# Altium schematic symbol library Microcontroller tinyAVR.SchLib: 370 symbols (part 11 of 11)
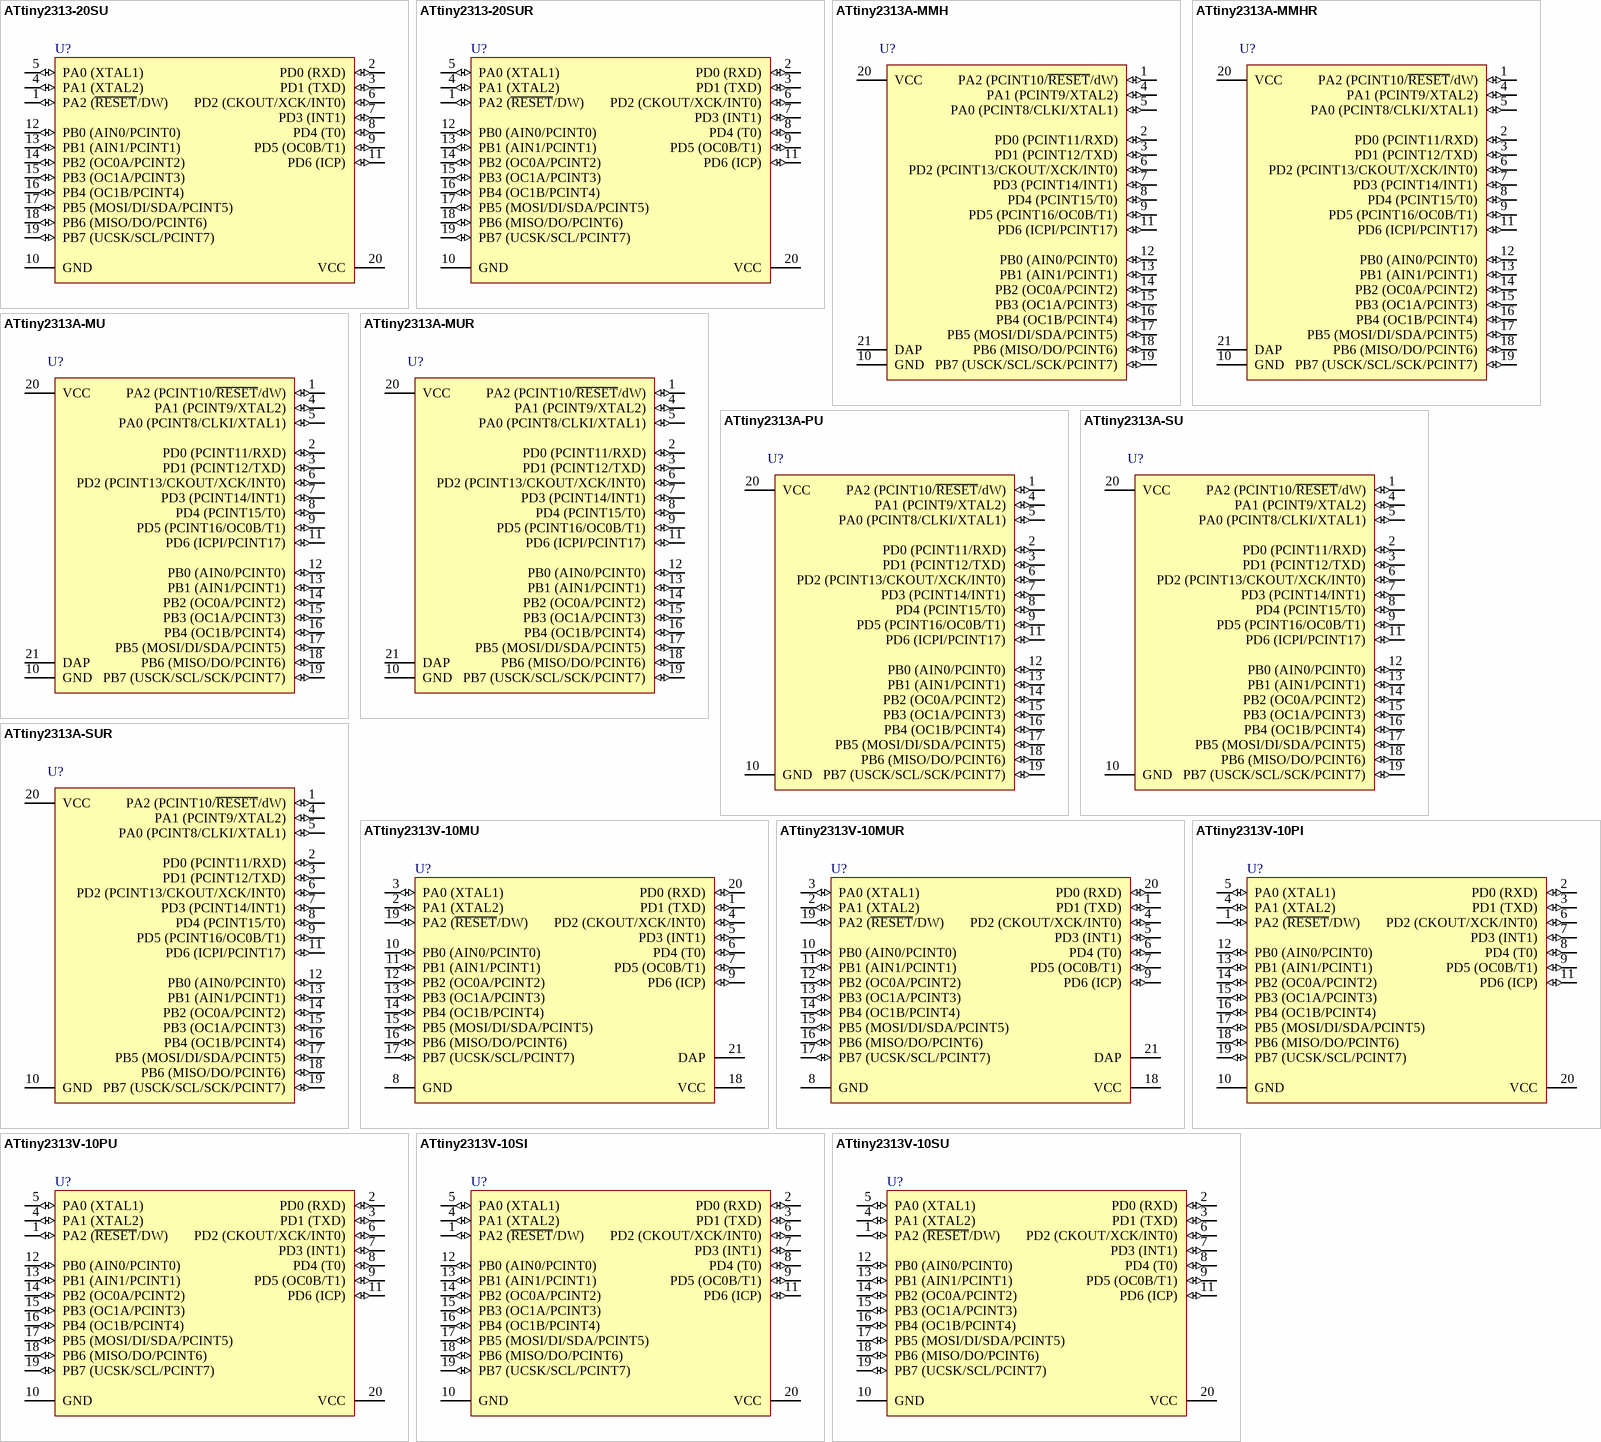
[diagram p36: symbols ATtiny2313-20SU to ATtiny2313V-10SU]

## ATtiny2313-20SUR
designator U?
Low Power tinyAVR® 8-Bit Microcontroller, 2.7-5.5V, 20MHz, 2K Flash Memory, Industrial Grade (-40°C to 85°C), 20-Lead SOIC, Pb-Free, Reel; DatasheetVersion: revL, Aug-2010; PackageVersion: revB, Nov-2006; PackageReference: 20S; PackageDescription: 20-lead, 0.300" Wide Body, Plastic Gull Wing Small Outline Package (SOIC); Code_JEDEC: MS-013-AC; Code_IPC: SOIC127P1030-20; ComponentLink1Description: Manufacturer URL; ComponentLink1URL: http://www.atmel.com/; ComponentLink2Description: ATtiny2313 Datasheet; ComponentLink2URL: http://www.atmel.com/dyn/resources/prod_documents/doc2543.pdf; ComponentLink3Description: ATtiny2313 Summary; ComponentLink3URL: http://www.atmel.com/dyn/resources/prod_documents/doc2543S.pdf
footprint 20S_N (SOIC, 20-Leads, Body 12.8x7.5mm, Pitch 1.27mm, IPC Medium Density)
footprint 20S_L (SOIC, 20-Leads, Body 12.8x7.5mm, Pitch 1.27mm, IPC High Density)
footprint 20S_M (SOIC, 20-Leads, Body 12.8x7.5mm, Pitch 1.27mm, IPC Low Density)
pins: 1 PA2 (~{RESET}/DW) (io), 2 PD0 (RXD) (io), 3 PD1 (TXD) (io), 4 PA1 (XTAL2) (io), 5 PA0 (XTAL1) (io), 6 PD2 (CKOUT/XCK/INT0) (io), 7 PD3 (INT1) (io), 8 PD4 (T0) (io), 9 PD5 (OC0B/T1) (io), 10 GND (power), 11 PD6 (ICP) (io), 12 PB0 (AIN0/PCINT0) (io), 13 PB1 (AIN1/PCINT1) (io), 14 PB2 (OC0A/PCINT2) (io), 15 PB3 (OC1A/PCINT3) (io), 16 PB4 (OC1B/PCINT4) (io), 17 PB5 (MOSI/DI/SDA/PCINT5) (io), 18 PB6 (MISO/DO/PCINT6) (io), 19 PB7 (UCSK/SCL/PCINT7) (io), 20 VCC (power)

## ATtiny2313A-MMH
designator U?
8-bit AVR Microcontroller, 1.8-5.5V, 20MHz, 2KB Flash, 128 Bytes EEPROM, 128 Bytes SRAM, 20-pin VQFN, Industrial Grade (-40°C to 85°C), Pb-Free; DatasheetVersion: revB, Oct-2011; PackageVersion: revB, Oct-2008; PackageReference: 20M2; PackageDescription: 20-pad, 3x3x0.85mm Body, Pitch 0.45mm, 1.55x1.55mm Exposed Pad, Plastic Very Thin QFN Package (VQFN); ComponentLink1Description: Manufacturer URL; ComponentLink1URL: http://www.atmel.com/; ComponentLink2Description: ATtiny2313A/4313 Datasheet; ComponentLink2URL: http://www.atmel.com/dyn/resources/prod_documents/doc8246.pdf; ComponentLink3Description: ATtiny2313A/4313 Summary; ComponentLink3URL: http://www.atmel.com/dyn/resources/prod_documents/8246S.pdf
footprint 20M2_N (QFN, 20-Leads, Body 3x3mm, Pitch 0.45mm, Thermal Pad 1.7x1.7mm, IPC Medium Density)
footprint 20M2_L (QFN, 20-Leads, Body 3x3mm, Pitch 0.45mm, Thermal Pad 1.7x1.7mm, IPC High Density)
footprint 20M2_M (QFN, 20-Leads, Body 3x3mm, Pitch 0.45mm, Thermal Pad 1.7x1.7mm, IPC Low Density)
pins: 1 PA2 (PCINT10/~{RESET}/dW) (io), 2 PD0 (PCINT11/RXD) (io), 3 PD1 (PCINT12/TXD) (io), 4 PA1 (PCINT9/XTAL2) (io), 5 PA0 (PCINT8/CLKI/XTAL1) (io), 6 PD2 (PCINT13/CKOUT/XCK/INT0) (io), 7 PD3 (PCINT14/INT1) (io), 8 PD4 (PCINT15/T0) (io), 9 PD5 (PCINT16/OC0B/T1) (io), 10 GND (power), 11 PD6 (ICPI/PCINT17) (io), 12 PB0 (AIN0/PCINT0) (io), 13 PB1 (AIN1/PCINT1) (io), 14 PB2 (OC0A/PCINT2) (io), 15 PB3 (OC1A/PCINT3) (io), 16 PB4 (OC1B/PCINT4) (io), 17 PB5 (MOSI/DI/SDA/PCINT5) (io), 18 PB6 (MISO/DO/PCINT6) (io), 19 PB7 (USCK/SCL/SCK/PCINT7) (io), 20 VCC (power), 21 DAP

## ATtiny2313A-MMHR
designator U?
8-bit AVR Microcontroller, 1.8-5.5V, 20MHz, 2KB Flash, 128 Bytes EEPROM, 128 Bytes SRAM, 20-pin VQFN, Industrial Grade (-40°C to 85°C), Pb-Free, Reel; DatasheetVersion: revB, Oct-2011; PackageVersion: revB, Oct-2008; PackageReference: 20M2; PackageDescription: 20-pad, 3x3x0.85mm Body, Pitch 0.45mm, 1.55x1.55mm Exposed Pad, Plastic Very Thin QFN Package (VQFN); ComponentLink1Description: Manufacturer URL; ComponentLink1URL: http://www.atmel.com/; ComponentLink2Description: ATtiny2313A/4313 Datasheet; ComponentLink2URL: http://www.atmel.com/dyn/resources/prod_documents/doc8246.pdf; ComponentLink3Description: ATtiny2313A/4313 Summary; ComponentLink3URL: http://www.atmel.com/dyn/resources/prod_documents/8246S.pdf
footprint 20M2_N (QFN, 20-Leads, Body 3x3mm, Pitch 0.45mm, Thermal Pad 1.7x1.7mm, IPC Medium Density)
footprint 20M2_L (QFN, 20-Leads, Body 3x3mm, Pitch 0.45mm, Thermal Pad 1.7x1.7mm, IPC High Density)
footprint 20M2_M (QFN, 20-Leads, Body 3x3mm, Pitch 0.45mm, Thermal Pad 1.7x1.7mm, IPC Low Density)
pins: 1 PA2 (PCINT10/~{RESET}/dW) (io), 2 PD0 (PCINT11/RXD) (io), 3 PD1 (PCINT12/TXD) (io), 4 PA1 (PCINT9/XTAL2) (io), 5 PA0 (PCINT8/CLKI/XTAL1) (io), 6 PD2 (PCINT13/CKOUT/XCK/INT0) (io), 7 PD3 (PCINT14/INT1) (io), 8 PD4 (PCINT15/T0) (io), 9 PD5 (PCINT16/OC0B/T1) (io), 10 GND (power), 11 PD6 (ICPI/PCINT17) (io), 12 PB0 (AIN0/PCINT0) (io), 13 PB1 (AIN1/PCINT1) (io), 14 PB2 (OC0A/PCINT2) (io), 15 PB3 (OC1A/PCINT3) (io), 16 PB4 (OC1B/PCINT4) (io), 17 PB5 (MOSI/DI/SDA/PCINT5) (io), 18 PB6 (MISO/DO/PCINT6) (io), 19 PB7 (USCK/SCL/SCK/PCINT7) (io), 20 VCC (power), 21 DAP

## ATtiny2313A-MU
designator U?
8-bit AVR Microcontroller, 1.8-5.5V, 20MHz, 2KB Flash, 128 Bytes EEPROM, 128 Bytes SRAM, 20-pin MLF, Industrial Grade (-40°C to 85°C), Pb-Free; DatasheetVersion: revB, Oct-2011; PackageVersion: revA, Oct-2004; PackageReference: 20M1; PackageDescription: 20-pad, 4 x 4 x 0.8 mm Body, Lead Pitch 0.50 mm, 2.6 mm Exposed Pad, Micro Lead Frame Package (MLF); Code_JEDEC: MO-220WGGD-5; ComponentLink1Description: Manufacturer URL; ComponentLink1URL: http://www.atmel.com/; ComponentLink2Description: ATtiny2313A/4313 Datasheet; ComponentLink2URL: http://www.atmel.com/dyn/resources/prod_documents/doc8246.pdf; ComponentLink3Description: ATtiny2313A/4313 Summary; ComponentLink3URL: http://www.atmel.com/dyn/resources/prod_documents/8246S.pdf
footprint 20M1_N (QFN, 20-Leads, Body 4x4mm, Pitch 0.5mm, Thermal Pad 2.7x2.7mm, IPC Medium Density)
footprint 20M1_L (QFN, 20-Leads, Body 4x4mm, Pitch 0.5mm, Thermal Pad 2.7x2.7mm, IPC High Density)
footprint 20M1_M (QFN, 20-Leads, Body 4x4mm, Pitch 0.5mm, Thermal Pad 2.7x2.7mm, IPC Low Density)
pins: 1 PA2 (PCINT10/~{RESET}/dW) (io), 2 PD0 (PCINT11/RXD) (io), 3 PD1 (PCINT12/TXD) (io), 4 PA1 (PCINT9/XTAL2) (io), 5 PA0 (PCINT8/CLKI/XTAL1) (io), 6 PD2 (PCINT13/CKOUT/XCK/INT0) (io), 7 PD3 (PCINT14/INT1) (io), 8 PD4 (PCINT15/T0) (io), 9 PD5 (PCINT16/OC0B/T1) (io), 10 GND (power), 11 PD6 (ICPI/PCINT17) (io), 12 PB0 (AIN0/PCINT0) (io), 13 PB1 (AIN1/PCINT1) (io), 14 PB2 (OC0A/PCINT2) (io), 15 PB3 (OC1A/PCINT3) (io), 16 PB4 (OC1B/PCINT4) (io), 17 PB5 (MOSI/DI/SDA/PCINT5) (io), 18 PB6 (MISO/DO/PCINT6) (io), 19 PB7 (USCK/SCL/SCK/PCINT7) (io), 20 VCC (power), 21 DAP

## ATtiny2313A-MUR
designator U?
8-bit AVR Microcontroller, 1.8-5.5V, 20MHz, 2KB Flash, 128 Bytes EEPROM, 128 Bytes SRAM, 20-pin MLF, Industrial Grade (-40°C to 85°C), Pb-Free, Reel; DatasheetVersion: revB, Oct-2011; PackageVersion: revA, Oct-2004; PackageReference: 20M1; PackageDescription: 20-pad, 4 x 4 x 0.8 mm Body, Lead Pitch 0.50 mm, 2.6 mm Exposed Pad, Micro Lead Frame Package (MLF); Code_JEDEC: MO-220WGGD-5; ComponentLink1Description: Manufacturer URL; ComponentLink1URL: http://www.atmel.com/; ComponentLink2Description: ATtiny2313A/4313 Datasheet; ComponentLink2URL: http://www.atmel.com/dyn/resources/prod_documents/doc8246.pdf; ComponentLink3Description: ATtiny2313A/4313 Summary; ComponentLink3URL: http://www.atmel.com/dyn/resources/prod_documents/8246S.pdf
footprint 20M1_N (QFN, 20-Leads, Body 4x4mm, Pitch 0.5mm, Thermal Pad 2.7x2.7mm, IPC Medium Density)
footprint 20M1_L (QFN, 20-Leads, Body 4x4mm, Pitch 0.5mm, Thermal Pad 2.7x2.7mm, IPC High Density)
footprint 20M1_M (QFN, 20-Leads, Body 4x4mm, Pitch 0.5mm, Thermal Pad 2.7x2.7mm, IPC Low Density)
pins: 1 PA2 (PCINT10/~{RESET}/dW) (io), 2 PD0 (PCINT11/RXD) (io), 3 PD1 (PCINT12/TXD) (io), 4 PA1 (PCINT9/XTAL2) (io), 5 PA0 (PCINT8/CLKI/XTAL1) (io), 6 PD2 (PCINT13/CKOUT/XCK/INT0) (io), 7 PD3 (PCINT14/INT1) (io), 8 PD4 (PCINT15/T0) (io), 9 PD5 (PCINT16/OC0B/T1) (io), 10 GND (power), 11 PD6 (ICPI/PCINT17) (io), 12 PB0 (AIN0/PCINT0) (io), 13 PB1 (AIN1/PCINT1) (io), 14 PB2 (OC0A/PCINT2) (io), 15 PB3 (OC1A/PCINT3) (io), 16 PB4 (OC1B/PCINT4) (io), 17 PB5 (MOSI/DI/SDA/PCINT5) (io), 18 PB6 (MISO/DO/PCINT6) (io), 19 PB7 (USCK/SCL/SCK/PCINT7) (io), 20 VCC (power), 21 DAP

## ATtiny2313A-PU
designator U?
8-bit AVR Microcontroller, 1.8-5.5V, 20MHz, 2KB Flash, 128 Bytes EEPROM, 128 Bytes SRAM, 20-pin PDIP, Industrial Grade (-40°C to 85°C), Pb-Free; DatasheetVersion: revB, Oct-2011; PackageVersion: revD, Oct-2010; PackageReference: 20P3; PackageDescription: 20-lead (0.300"/7.62mm Wide) Plastic Dual Inline Package (PDIP); Code_JEDEC: MS-001-AD; ComponentLink1Description: Manufacturer URL; ComponentLink1URL: http://www.atmel.com/; ComponentLink2Description: ATtiny2313A/4313 Datasheet; ComponentLink2URL: http://www.atmel.com/dyn/resources/prod_documents/doc8246.pdf; ComponentLink3Description: ATtiny2313A/4313 Summary; ComponentLink3URL: http://www.atmel.com/dyn/resources/prod_documents/8246S.pdf
footprint 20P3 (DIP, 20-Leads, Row Spacing 7.62mm, Pitch 2.54mm, Body 25.9x6.61mm)
pins: 1 PA2 (PCINT10/~{RESET}/dW) (io), 2 PD0 (PCINT11/RXD) (io), 3 PD1 (PCINT12/TXD) (io), 4 PA1 (PCINT9/XTAL2) (io), 5 PA0 (PCINT8/CLKI/XTAL1) (io), 6 PD2 (PCINT13/CKOUT/XCK/INT0) (io), 7 PD3 (PCINT14/INT1) (io), 8 PD4 (PCINT15/T0) (io), 9 PD5 (PCINT16/OC0B/T1) (io), 10 GND (power), 11 PD6 (ICPI/PCINT17) (io), 12 PB0 (AIN0/PCINT0) (io), 13 PB1 (AIN1/PCINT1) (io), 14 PB2 (OC0A/PCINT2) (io), 15 PB3 (OC1A/PCINT3) (io), 16 PB4 (OC1B/PCINT4) (io), 17 PB5 (MOSI/DI/SDA/PCINT5) (io), 18 PB6 (MISO/DO/PCINT6) (io), 19 PB7 (USCK/SCL/SCK/PCINT7) (io), 20 VCC (power)

## ATtiny2313A-SU
designator U?
8-bit AVR Microcontroller, 1.8-5.5V, 20MHz, 2KB Flash, 128 Bytes EEPROM, 128 Bytes SRAM, 20-pin SOIC, Industrial Grade (-40°C to 85°C), Pb-Free; DatasheetVersion: revB, Oct-2011; PackageVersion: revB, Nov-2006; PackageReference: 20S; PackageDescription: 20-lead, 0.300" Wide Body, Plastic Gull Wing Small Outline Package (SOIC); Code_JEDEC: MS-013-AC; Code_IPC: SOIC127P1030-20; ComponentLink1Description: Manufacturer URL; ComponentLink1URL: http://www.atmel.com/; ComponentLink2Description: ATtiny2313A/4313 Datasheet; ComponentLink2URL: http://www.atmel.com/dyn/resources/prod_documents/doc8246.pdf; ComponentLink3Description: ATtiny2313A/4313 Summary; ComponentLink3URL: http://www.atmel.com/dyn/resources/prod_documents/8246S.pdf
footprint 20S_N (SOIC, 20-Leads, Body 12.8x7.5mm, Pitch 1.27mm, IPC Medium Density)
footprint 20S_L (SOIC, 20-Leads, Body 12.8x7.5mm, Pitch 1.27mm, IPC High Density)
footprint 20S_M (SOIC, 20-Leads, Body 12.8x7.5mm, Pitch 1.27mm, IPC Low Density)
pins: 1 PA2 (PCINT10/~{RESET}/dW) (io), 2 PD0 (PCINT11/RXD) (io), 3 PD1 (PCINT12/TXD) (io), 4 PA1 (PCINT9/XTAL2) (io), 5 PA0 (PCINT8/CLKI/XTAL1) (io), 6 PD2 (PCINT13/CKOUT/XCK/INT0) (io), 7 PD3 (PCINT14/INT1) (io), 8 PD4 (PCINT15/T0) (io), 9 PD5 (PCINT16/OC0B/T1) (io), 10 GND (power), 11 PD6 (ICPI/PCINT17) (io), 12 PB0 (AIN0/PCINT0) (io), 13 PB1 (AIN1/PCINT1) (io), 14 PB2 (OC0A/PCINT2) (io), 15 PB3 (OC1A/PCINT3) (io), 16 PB4 (OC1B/PCINT4) (io), 17 PB5 (MOSI/DI/SDA/PCINT5) (io), 18 PB6 (MISO/DO/PCINT6) (io), 19 PB7 (USCK/SCL/SCK/PCINT7) (io), 20 VCC (power)

## ATtiny2313A-SUR
designator U?
8-bit AVR Microcontroller, 1.8-5.5V, 20MHz, 2KB Flash, 128 Bytes EEPROM, 128 Bytes SRAM, 20-pin SOIC, Industrial Grade (-40°C to 85°C), Pb-Free, Reel; DatasheetVersion: revB, Oct-2011; PackageVersion: revB, Nov-2006; PackageReference: 20S; PackageDescription: 20-lead, 0.300" Wide Body, Plastic Gull Wing Small Outline Package (SOIC); Code_JEDEC: MS-013-AC; Code_IPC: SOIC127P1030-20; ComponentLink1Description: Manufacturer URL; ComponentLink1URL: http://www.atmel.com/; ComponentLink2Description: ATtiny2313A/4313 Datasheet; ComponentLink2URL: http://www.atmel.com/dyn/resources/prod_documents/doc8246.pdf; ComponentLink3Description: ATtiny2313A/4313 Summary; ComponentLink3URL: http://www.atmel.com/dyn/resources/prod_documents/8246S.pdf
footprint 20S_N (SOIC, 20-Leads, Body 12.8x7.5mm, Pitch 1.27mm, IPC Medium Density)
footprint 20S_L (SOIC, 20-Leads, Body 12.8x7.5mm, Pitch 1.27mm, IPC High Density)
footprint 20S_M (SOIC, 20-Leads, Body 12.8x7.5mm, Pitch 1.27mm, IPC Low Density)
pins: 1 PA2 (PCINT10/~{RESET}/dW) (io), 2 PD0 (PCINT11/RXD) (io), 3 PD1 (PCINT12/TXD) (io), 4 PA1 (PCINT9/XTAL2) (io), 5 PA0 (PCINT8/CLKI/XTAL1) (io), 6 PD2 (PCINT13/CKOUT/XCK/INT0) (io), 7 PD3 (PCINT14/INT1) (io), 8 PD4 (PCINT15/T0) (io), 9 PD5 (PCINT16/OC0B/T1) (io), 10 GND (power), 11 PD6 (ICPI/PCINT17) (io), 12 PB0 (AIN0/PCINT0) (io), 13 PB1 (AIN1/PCINT1) (io), 14 PB2 (OC0A/PCINT2) (io), 15 PB3 (OC1A/PCINT3) (io), 16 PB4 (OC1B/PCINT4) (io), 17 PB5 (MOSI/DI/SDA/PCINT5) (io), 18 PB6 (MISO/DO/PCINT6) (io), 19 PB7 (USCK/SCL/SCK/PCINT7) (io), 20 VCC (power)

## ATtiny2313V-10MU
designator U?
Low Power tinyAVR® 8-Bit Microcontroller, 1.8-5.5V, 10MHz, 2K Flash Memory, Industrial Grade (-40°C to 85°C), 20-Lead MLF, Pb-Free; DatasheetVersion: revL, Aug-2010; PackageVersion: revA, Oct-2004; PackageReference: 20M1; PackageDescription: 20-pad, 4 x 4 x 0.8 mm Body, Lead Pitch 0.50 mm, 2.6 mm Exposed Pad, Micro Lead Frame Package (MLF); Code_JEDEC: MO-220WGGD-5; ComponentLink1Description: Manufacturer URL; ComponentLink1URL: http://www.atmel.com/; ComponentLink2Description: ATtiny2313 Datasheet; ComponentLink2URL: http://www.atmel.com/dyn/resources/prod_documents/doc2543.pdf; ComponentLink3Description: ATtiny2313 Summary; ComponentLink3URL: http://www.atmel.com/dyn/resources/prod_documents/doc2543S.pdf
footprint 20M1_N (QFN, 20-Leads, Body 4x4mm, Pitch 0.5mm, Thermal Pad 2.7x2.7mm, IPC Medium Density)
footprint 20M1_L (QFN, 20-Leads, Body 4x4mm, Pitch 0.5mm, Thermal Pad 2.7x2.7mm, IPC High Density)
footprint 20M1_M (QFN, 20-Leads, Body 4x4mm, Pitch 0.5mm, Thermal Pad 2.7x2.7mm, IPC Low Density)
pins: 1 PD1 (TXD) (io), 2 PA1 (XTAL2) (io), 3 PA0 (XTAL1) (io), 4 PD2 (CKOUT/XCK/INT0) (io), 5 PD3 (INT1) (io), 6 PD4 (T0) (io), 7 PD5 (OC0B/T1) (io), 8 GND (power), 9 PD6 (ICP) (io), 10 PB0 (AIN0/PCINT0) (io), 11 PB1 (AIN1/PCINT1) (io), 12 PB2 (OC0A/PCINT2) (io), 13 PB3 (OC1A/PCINT3) (io), 14 PB4 (OC1B/PCINT4) (io), 15 PB5 (MOSI/DI/SDA/PCINT5) (io), 16 PB6 (MISO/DO/PCINT6) (io), 17 PB7 (UCSK/SCL/PCINT7) (io), 18 VCC (power), 19 PA2 (~{RESET}/DW) (io), 20 PD0 (RXD) (io), 21 DAP (power)

## ATtiny2313V-10MUR
designator U?
Low Power tinyAVR® 8-Bit Microcontroller, 1.8-5.5V, 10MHz, 2K Flash Memory, Industrial Grade (-40°C to 85°C), 20-Lead MLF, Pb-Free, Reel; DatasheetVersion: revL, Aug-2010; PackageVersion: revA, Oct-2004; PackageReference: 20M1; PackageDescription: 20-pad, 4 x 4 x 0.8 mm Body, Lead Pitch 0.50 mm, 2.6 mm Exposed Pad, Micro Lead Frame Package (MLF); Code_JEDEC: MO-220WGGD-5; ComponentLink1Description: Manufacturer URL; ComponentLink1URL: http://www.atmel.com/; ComponentLink2Description: ATtiny2313 Datasheet; ComponentLink2URL: http://www.atmel.com/dyn/resources/prod_documents/doc2543.pdf; ComponentLink3Description: ATtiny2313 Summary; ComponentLink3URL: http://www.atmel.com/dyn/resources/prod_documents/doc2543S.pdf
footprint 20M1_N (QFN, 20-Leads, Body 4x4mm, Pitch 0.5mm, Thermal Pad 2.7x2.7mm, IPC Medium Density)
footprint 20M1_L (QFN, 20-Leads, Body 4x4mm, Pitch 0.5mm, Thermal Pad 2.7x2.7mm, IPC High Density)
footprint 20M1_M (QFN, 20-Leads, Body 4x4mm, Pitch 0.5mm, Thermal Pad 2.7x2.7mm, IPC Low Density)
pins: 1 PD1 (TXD) (io), 2 PA1 (XTAL2) (io), 3 PA0 (XTAL1) (io), 4 PD2 (CKOUT/XCK/INT0) (io), 5 PD3 (INT1) (io), 6 PD4 (T0) (io), 7 PD5 (OC0B/T1) (io), 8 GND (power), 9 PD6 (ICP) (io), 10 PB0 (AIN0/PCINT0) (io), 11 PB1 (AIN1/PCINT1) (io), 12 PB2 (OC0A/PCINT2) (io), 13 PB3 (OC1A/PCINT3) (io), 14 PB4 (OC1B/PCINT4) (io), 15 PB5 (MOSI/DI/SDA/PCINT5) (io), 16 PB6 (MISO/DO/PCINT6) (io), 17 PB7 (UCSK/SCL/PCINT7) (io), 18 VCC (power), 19 PA2 (~{RESET}/DW) (io), 20 PD0 (RXD) (io), 21 DAP (power)

## ATtiny2313V-10PI
designator U?
Low Power tinyAVR® 8-Bit Microcontroller, 2K Flash Memory, 10MHz, Industrial Temperature, 20-Lead PDIP; DatasheetVersion: DOC2543B, Mar-2009; PackageVersion: revD, Oct-2010; PackageReference: 20P3; PackageDescription: 20-lead (0.300"/7.62mm Wide) Plastic Dual Inline Package (PDIP); Code_JEDEC: MS-001-AD; ComponentLink1Description: Manufacturer URL; ComponentLink1URL: http://www.atmel.com/
footprint 20P3 (DIP, 20-Leads, Row Spacing 7.62mm, Pitch 2.54mm, Body 25.9x6.61mm)
pins: 1 PA2 (~{RESET}/DW) (io), 2 PD0 (RXD) (io), 3 PD1 (TXD) (io), 4 PA1 (XTAL2) (io), 5 PA0 (XTAL1) (io), 6 PD2 (CKOUT/XCK/INT0) (io), 7 PD3 (INT1) (io), 8 PD4 (T0) (io), 9 PD5 (OC0B/T1) (io), 10 GND (power), 11 PD6 (ICP) (io), 12 PB0 (AIN0/PCINT0) (io), 13 PB1 (AIN1/PCINT1) (io), 14 PB2 (OC0A/PCINT2) (io), 15 PB3 (OC1A/PCINT3) (io), 16 PB4 (OC1B/PCINT4) (io), 17 PB5 (MOSI/DI/SDA/PCINT5) (io), 18 PB6 (MISO/DO/PCINT6) (io), 19 PB7 (UCSK/SCL/PCINT7) (io), 20 VCC (power)

## ATtiny2313V-10PU
designator U?
Low Power tinyAVR® 8-Bit Microcontroller, 1.8-5.5V, 10MHz, 2K Flash Memory, Industrial Grade (-40°C to 85°C), 20-Lead PDIP, Pb-Free; DatasheetVersion: revL, Aug-2010; PackageVersion: revD, Oct-2010; PackageReference: 20P3; PackageDescription: 20-lead (0.300"/7.62mm Wide) Plastic Dual Inline Package (PDIP); Code_JEDEC: MS-001-AD; ComponentLink1Description: Manufacturer URL; ComponentLink1URL: http://www.atmel.com/; ComponentLink2Description: ATtiny2313 Datasheet; ComponentLink2URL: http://www.atmel.com/dyn/resources/prod_documents/doc2543.pdf; ComponentLink3Description: ATtiny2313 Summary; ComponentLink3URL: http://www.atmel.com/dyn/resources/prod_documents/doc2543S.pdf
footprint 20P3 (DIP, 20-Leads, Row Spacing 7.62mm, Pitch 2.54mm, Body 25.9x6.61mm)
pins: 1 PA2 (~{RESET}/DW) (io), 2 PD0 (RXD) (io), 3 PD1 (TXD) (io), 4 PA1 (XTAL2) (io), 5 PA0 (XTAL1) (io), 6 PD2 (CKOUT/XCK/INT0) (io), 7 PD3 (INT1) (io), 8 PD4 (T0) (io), 9 PD5 (OC0B/T1) (io), 10 GND (power), 11 PD6 (ICP) (io), 12 PB0 (AIN0/PCINT0) (io), 13 PB1 (AIN1/PCINT1) (io), 14 PB2 (OC0A/PCINT2) (io), 15 PB3 (OC1A/PCINT3) (io), 16 PB4 (OC1B/PCINT4) (io), 17 PB5 (MOSI/DI/SDA/PCINT5) (io), 18 PB6 (MISO/DO/PCINT6) (io), 19 PB7 (UCSK/SCL/PCINT7) (io), 20 VCC (power)

## ATtiny2313V-10SI
designator U?
Low Power tinyAVR® 8-Bit Microcontroller, 2K Flash Memory, 10MHz, Industrial Temperature, 20-Lead SOIC; DatasheetVersion: DOC2543B, Mar-2009; PackageVersion: revB, Nov-2006; PackageReference: 20S; PackageDescription: 20-lead, 0.300" Wide Body, Plastic Gull Wing Small Outline Package (SOIC); Code_JEDEC: MS-013-AC; Code_IPC: SOIC127P1030-20; ComponentLink1Description: Manufacturer URL; ComponentLink1URL: http://www.atmel.com/
footprint 20S_N (SOIC, 20-Leads, Body 12.8x7.5mm, Pitch 1.27mm, IPC Medium Density)
footprint 20S_L (SOIC, 20-Leads, Body 12.8x7.5mm, Pitch 1.27mm, IPC High Density)
footprint 20S_M (SOIC, 20-Leads, Body 12.8x7.5mm, Pitch 1.27mm, IPC Low Density)
pins: 1 PA2 (~{RESET}/DW) (io), 2 PD0 (RXD) (io), 3 PD1 (TXD) (io), 4 PA1 (XTAL2) (io), 5 PA0 (XTAL1) (io), 6 PD2 (CKOUT/XCK/INT0) (io), 7 PD3 (INT1) (io), 8 PD4 (T0) (io), 9 PD5 (OC0B/T1) (io), 10 GND (power), 11 PD6 (ICP) (io), 12 PB0 (AIN0/PCINT0) (io), 13 PB1 (AIN1/PCINT1) (io), 14 PB2 (OC0A/PCINT2) (io), 15 PB3 (OC1A/PCINT3) (io), 16 PB4 (OC1B/PCINT4) (io), 17 PB5 (MOSI/DI/SDA/PCINT5) (io), 18 PB6 (MISO/DO/PCINT6) (io), 19 PB7 (UCSK/SCL/PCINT7) (io), 20 VCC (power)

## ATtiny2313V-10SU
designator U?
Low Power tinyAVR® 8-Bit Microcontroller, 1.8-5.5V, 10MHz, 2K Flash Memory, Industrial Grade (-40°C to 85°C), 20-Lead SOIC, Pb-Free; DatasheetVersion: revL, Aug-2010; PackageVersion: revB, Nov-2006; PackageReference: 20S; PackageDescription: 20-lead, 0.300" Wide Body, Plastic Gull Wing Small Outline Package (SOIC); Code_JEDEC: MS-013-AC; Code_IPC: SOIC127P1030-20; ComponentLink1Description: Manufacturer URL; ComponentLink1URL: http://www.atmel.com/; ComponentLink2Description: ATtiny2313 Datasheet; ComponentLink2URL: http://www.atmel.com/dyn/resources/prod_documents/doc2543.pdf; ComponentLink3Description: ATtiny2313 Summary; ComponentLink3URL: http://www.atmel.com/dyn/resources/prod_documents/doc2543S.pdf
footprint 20S_N (SOIC, 20-Leads, Body 12.8x7.5mm, Pitch 1.27mm, IPC Medium Density)
footprint 20S_L (SOIC, 20-Leads, Body 12.8x7.5mm, Pitch 1.27mm, IPC High Density)
footprint 20S_M (SOIC, 20-Leads, Body 12.8x7.5mm, Pitch 1.27mm, IPC Low Density)
pins: 1 PA2 (~{RESET}/DW) (io), 2 PD0 (RXD) (io), 3 PD1 (TXD) (io), 4 PA1 (XTAL2) (io), 5 PA0 (XTAL1) (io), 6 PD2 (CKOUT/XCK/INT0) (io), 7 PD3 (INT1) (io), 8 PD4 (T0) (io), 9 PD5 (OC0B/T1) (io), 10 GND (power), 11 PD6 (ICP) (io), 12 PB0 (AIN0/PCINT0) (io), 13 PB1 (AIN1/PCINT1) (io), 14 PB2 (OC0A/PCINT2) (io), 15 PB3 (OC1A/PCINT3) (io), 16 PB4 (OC1B/PCINT4) (io), 17 PB5 (MOSI/DI/SDA/PCINT5) (io), 18 PB6 (MISO/DO/PCINT6) (io), 19 PB7 (UCSK/SCL/PCINT7) (io), 20 VCC (power)

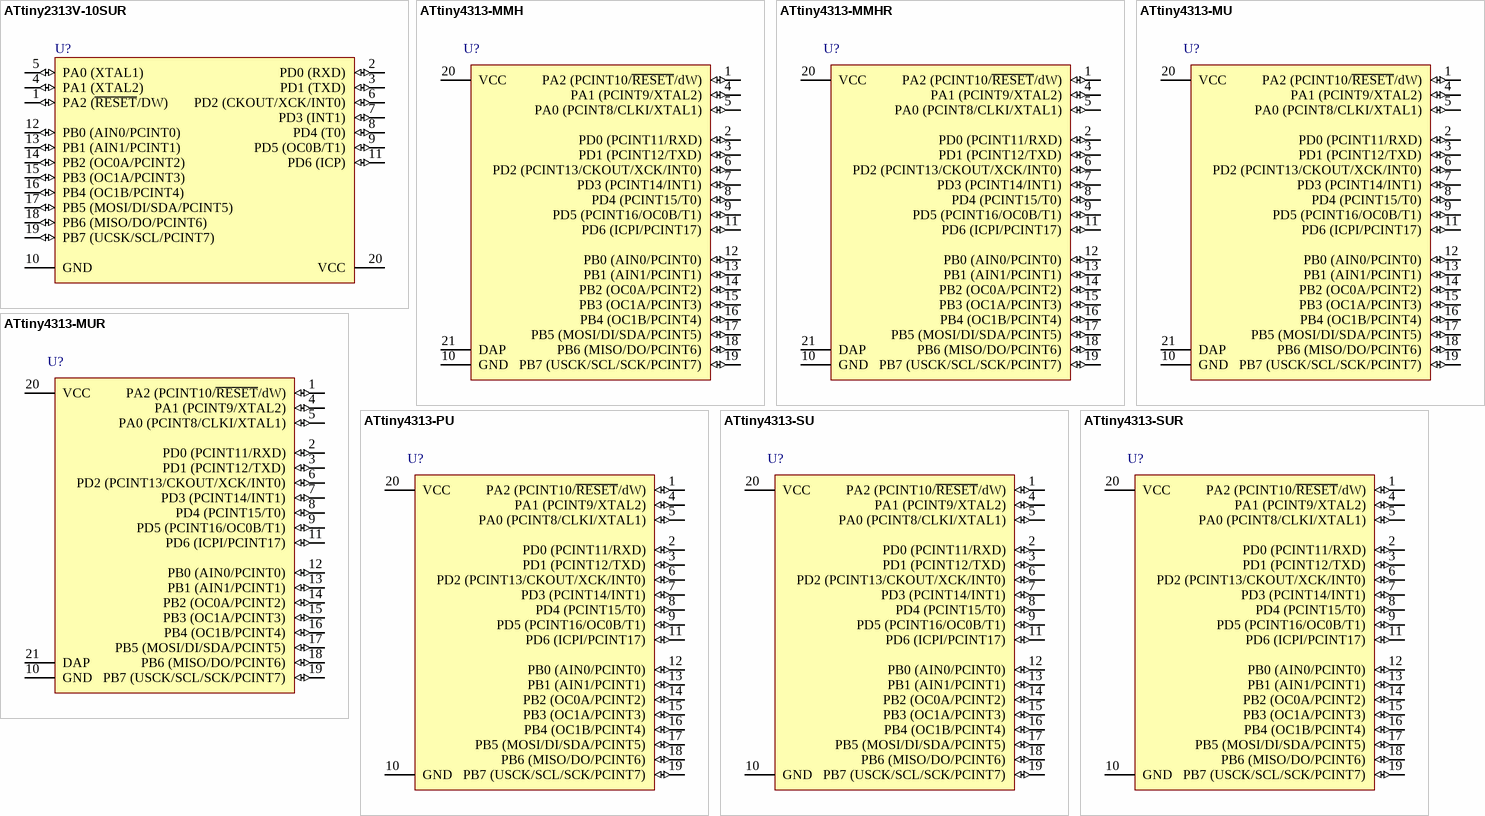
[diagram p26: symbols ATtiny2313V-10SUR to ATtiny4313-SUR]

## ATtiny2313V-10SUR
designator U?
Low Power tinyAVR® 8-Bit Microcontroller, 1.8-5.5V, 10MHz, 2K Flash Memory, Industrial Grade (-40°C to 85°C), 20-Lead SOIC, Pb-Free, Reel; DatasheetVersion: revL, Aug-2010; PackageVersion: revB, Nov-2006; PackageReference: 20S; PackageDescription: 20-lead, 0.300" Wide Body, Plastic Gull Wing Small Outline Package (SOIC); Code_JEDEC: MS-013-AC; Code_IPC: SOIC127P1030-20; ComponentLink1Description: Manufacturer URL; ComponentLink1URL: http://www.atmel.com/; ComponentLink2Description: ATtiny2313 Datasheet; ComponentLink2URL: http://www.atmel.com/dyn/resources/prod_documents/doc2543.pdf; ComponentLink3Description: ATtiny2313 Summary; ComponentLink3URL: http://www.atmel.com/dyn/resources/prod_documents/doc2543S.pdf
footprint 20S_N (SOIC, 20-Leads, Body 12.8x7.5mm, Pitch 1.27mm, IPC Medium Density)
footprint 20S_L (SOIC, 20-Leads, Body 12.8x7.5mm, Pitch 1.27mm, IPC High Density)
footprint 20S_M (SOIC, 20-Leads, Body 12.8x7.5mm, Pitch 1.27mm, IPC Low Density)
pins: 1 PA2 (~{RESET}/DW) (io), 2 PD0 (RXD) (io), 3 PD1 (TXD) (io), 4 PA1 (XTAL2) (io), 5 PA0 (XTAL1) (io), 6 PD2 (CKOUT/XCK/INT0) (io), 7 PD3 (INT1) (io), 8 PD4 (T0) (io), 9 PD5 (OC0B/T1) (io), 10 GND (power), 11 PD6 (ICP) (io), 12 PB0 (AIN0/PCINT0) (io), 13 PB1 (AIN1/PCINT1) (io), 14 PB2 (OC0A/PCINT2) (io), 15 PB3 (OC1A/PCINT3) (io), 16 PB4 (OC1B/PCINT4) (io), 17 PB5 (MOSI/DI/SDA/PCINT5) (io), 18 PB6 (MISO/DO/PCINT6) (io), 19 PB7 (UCSK/SCL/PCINT7) (io), 20 VCC (power)

## ATtiny4313-MMH
designator U?
8-bit AVR Microcontroller, 1.8-5.5V, 20MHz, 4KB Flash, 256 Bytes EEPROM, 256 Bytes SRAM, 20-pin VQFN, Industrial Grade (-40°C to 85°C), Pb-Free; DatasheetVersion: revB, Oct-2011; PackageVersion: revB, Oct-2008; PackageReference: 20M2; PackageDescription: 20-pad, 3x3x0.85mm Body, Pitch 0.45mm, 1.55x1.55mm Exposed Pad, Plastic Very Thin QFN Package (VQFN); ComponentLink1Description: Manufacturer URL; ComponentLink1URL: http://www.atmel.com/; ComponentLink2Description: ATtiny2313A/4313 Datasheet; ComponentLink2URL: http://www.atmel.com/dyn/resources/prod_documents/doc8246.pdf; ComponentLink3Description: ATtiny2313A/4313 Summary; ComponentLink3URL: http://www.atmel.com/dyn/resources/prod_documents/8246S.pdf
footprint 20M2_N (QFN, 20-Leads, Body 3x3mm, Pitch 0.45mm, Thermal Pad 1.7x1.7mm, IPC Medium Density)
footprint 20M2_L (QFN, 20-Leads, Body 3x3mm, Pitch 0.45mm, Thermal Pad 1.7x1.7mm, IPC High Density)
footprint 20M2_M (QFN, 20-Leads, Body 3x3mm, Pitch 0.45mm, Thermal Pad 1.7x1.7mm, IPC Low Density)
pins: 1 PA2 (PCINT10/~{RESET}/dW) (io), 2 PD0 (PCINT11/RXD) (io), 3 PD1 (PCINT12/TXD) (io), 4 PA1 (PCINT9/XTAL2) (io), 5 PA0 (PCINT8/CLKI/XTAL1) (io), 6 PD2 (PCINT13/CKOUT/XCK/INT0) (io), 7 PD3 (PCINT14/INT1) (io), 8 PD4 (PCINT15/T0) (io), 9 PD5 (PCINT16/OC0B/T1) (io), 10 GND (power), 11 PD6 (ICPI/PCINT17) (io), 12 PB0 (AIN0/PCINT0) (io), 13 PB1 (AIN1/PCINT1) (io), 14 PB2 (OC0A/PCINT2) (io), 15 PB3 (OC1A/PCINT3) (io), 16 PB4 (OC1B/PCINT4) (io), 17 PB5 (MOSI/DI/SDA/PCINT5) (io), 18 PB6 (MISO/DO/PCINT6) (io), 19 PB7 (USCK/SCL/SCK/PCINT7) (io), 20 VCC (power), 21 DAP

## ATtiny4313-MMHR
designator U?
8-bit AVR Microcontroller, 1.8-5.5V, 20MHz, 4KB Flash, 256 Bytes EEPROM, 256 Bytes SRAM, 20-pin VQFN, Industrial Grade (-40°C to 85°C), Pb-Free, Reel; DatasheetVersion: revB, Oct-2011; PackageVersion: revB, Oct-2008; PackageReference: 20M2; PackageDescription: 20-pad, 3x3x0.85mm Body, Pitch 0.45mm, 1.55x1.55mm Exposed Pad, Plastic Very Thin QFN Package (VQFN); ComponentLink1Description: Manufacturer URL; ComponentLink1URL: http://www.atmel.com/; ComponentLink2Description: ATtiny2313A/4313 Datasheet; ComponentLink2URL: http://www.atmel.com/dyn/resources/prod_documents/doc8246.pdf; ComponentLink3Description: ATtiny2313A/4313 Summary; ComponentLink3URL: http://www.atmel.com/dyn/resources/prod_documents/8246S.pdf
footprint 20M2_N (QFN, 20-Leads, Body 3x3mm, Pitch 0.45mm, Thermal Pad 1.7x1.7mm, IPC Medium Density)
footprint 20M2_L (QFN, 20-Leads, Body 3x3mm, Pitch 0.45mm, Thermal Pad 1.7x1.7mm, IPC High Density)
footprint 20M2_M (QFN, 20-Leads, Body 3x3mm, Pitch 0.45mm, Thermal Pad 1.7x1.7mm, IPC Low Density)
pins: 1 PA2 (PCINT10/~{RESET}/dW) (io), 2 PD0 (PCINT11/RXD) (io), 3 PD1 (PCINT12/TXD) (io), 4 PA1 (PCINT9/XTAL2) (io), 5 PA0 (PCINT8/CLKI/XTAL1) (io), 6 PD2 (PCINT13/CKOUT/XCK/INT0) (io), 7 PD3 (PCINT14/INT1) (io), 8 PD4 (PCINT15/T0) (io), 9 PD5 (PCINT16/OC0B/T1) (io), 10 GND (power), 11 PD6 (ICPI/PCINT17) (io), 12 PB0 (AIN0/PCINT0) (io), 13 PB1 (AIN1/PCINT1) (io), 14 PB2 (OC0A/PCINT2) (io), 15 PB3 (OC1A/PCINT3) (io), 16 PB4 (OC1B/PCINT4) (io), 17 PB5 (MOSI/DI/SDA/PCINT5) (io), 18 PB6 (MISO/DO/PCINT6) (io), 19 PB7 (USCK/SCL/SCK/PCINT7) (io), 20 VCC (power), 21 DAP

## ATtiny4313-MU
designator U?
8-bit AVR Microcontroller, 1.8-5.5V, 20MHz, 4KB Flash, 256 Bytes EEPROM, 256 Bytes SRAM, 20-pin MLF, Industrial Grade (-40°C to 85°C), Pb-Free; DatasheetVersion: revB, Oct-2011; PackageVersion: revA, Oct-2004; PackageReference: 20M1; PackageDescription: 20-pad, 4 x 4 x 0.8 mm Body, Lead Pitch 0.50 mm, 2.6 mm Exposed Pad, Micro Lead Frame Package (MLF); Code_JEDEC: MO-220WGGD-5; ComponentLink1Description: Manufacturer URL; ComponentLink1URL: http://www.atmel.com/; ComponentLink2Description: ATtiny2313A/4313 Datasheet; ComponentLink2URL: http://www.atmel.com/dyn/resources/prod_documents/doc8246.pdf; ComponentLink3Description: ATtiny2313A/4313 Summary; ComponentLink3URL: http://www.atmel.com/dyn/resources/prod_documents/8246S.pdf
footprint 20M1_N (QFN, 20-Leads, Body 4x4mm, Pitch 0.5mm, Thermal Pad 2.7x2.7mm, IPC Medium Density)
footprint 20M1_L (QFN, 20-Leads, Body 4x4mm, Pitch 0.5mm, Thermal Pad 2.7x2.7mm, IPC High Density)
footprint 20M1_M (QFN, 20-Leads, Body 4x4mm, Pitch 0.5mm, Thermal Pad 2.7x2.7mm, IPC Low Density)
pins: 1 PA2 (PCINT10/~{RESET}/dW) (io), 2 PD0 (PCINT11/RXD) (io), 3 PD1 (PCINT12/TXD) (io), 4 PA1 (PCINT9/XTAL2) (io), 5 PA0 (PCINT8/CLKI/XTAL1) (io), 6 PD2 (PCINT13/CKOUT/XCK/INT0) (io), 7 PD3 (PCINT14/INT1) (io), 8 PD4 (PCINT15/T0) (io), 9 PD5 (PCINT16/OC0B/T1) (io), 10 GND (power), 11 PD6 (ICPI/PCINT17) (io), 12 PB0 (AIN0/PCINT0) (io), 13 PB1 (AIN1/PCINT1) (io), 14 PB2 (OC0A/PCINT2) (io), 15 PB3 (OC1A/PCINT3) (io), 16 PB4 (OC1B/PCINT4) (io), 17 PB5 (MOSI/DI/SDA/PCINT5) (io), 18 PB6 (MISO/DO/PCINT6) (io), 19 PB7 (USCK/SCL/SCK/PCINT7) (io), 20 VCC (power), 21 DAP

## ATtiny4313-MUR
designator U?
8-bit AVR Microcontroller, 1.8-5.5V, 20MHz, 4KB Flash, 256 Bytes EEPROM, 256 Bytes SRAM, 20-pin MLF, Industrial Grade (-40°C to 85°C), Pb-Free, Reel; DatasheetVersion: revB, Oct-2011; PackageVersion: revA, Oct-2004; PackageReference: 20M1; PackageDescription: 20-pad, 4 x 4 x 0.8 mm Body, Lead Pitch 0.50 mm, 2.6 mm Exposed Pad, Micro Lead Frame Package (MLF); Code_JEDEC: MO-220WGGD-5; ComponentLink1Description: Manufacturer URL; ComponentLink1URL: http://www.atmel.com/; ComponentLink2Description: ATtiny2313A/4313 Datasheet; ComponentLink2URL: http://www.atmel.com/dyn/resources/prod_documents/doc8246.pdf; ComponentLink3Description: ATtiny2313A/4313 Summary; ComponentLink3URL: http://www.atmel.com/dyn/resources/prod_documents/8246S.pdf
footprint 20M1_N (QFN, 20-Leads, Body 4x4mm, Pitch 0.5mm, Thermal Pad 2.7x2.7mm, IPC Medium Density)
footprint 20M1_L (QFN, 20-Leads, Body 4x4mm, Pitch 0.5mm, Thermal Pad 2.7x2.7mm, IPC High Density)
footprint 20M1_M (QFN, 20-Leads, Body 4x4mm, Pitch 0.5mm, Thermal Pad 2.7x2.7mm, IPC Low Density)
pins: 1 PA2 (PCINT10/~{RESET}/dW) (io), 2 PD0 (PCINT11/RXD) (io), 3 PD1 (PCINT12/TXD) (io), 4 PA1 (PCINT9/XTAL2) (io), 5 PA0 (PCINT8/CLKI/XTAL1) (io), 6 PD2 (PCINT13/CKOUT/XCK/INT0) (io), 7 PD3 (PCINT14/INT1) (io), 8 PD4 (PCINT15/T0) (io), 9 PD5 (PCINT16/OC0B/T1) (io), 10 GND (power), 11 PD6 (ICPI/PCINT17) (io), 12 PB0 (AIN0/PCINT0) (io), 13 PB1 (AIN1/PCINT1) (io), 14 PB2 (OC0A/PCINT2) (io), 15 PB3 (OC1A/PCINT3) (io), 16 PB4 (OC1B/PCINT4) (io), 17 PB5 (MOSI/DI/SDA/PCINT5) (io), 18 PB6 (MISO/DO/PCINT6) (io), 19 PB7 (USCK/SCL/SCK/PCINT7) (io), 20 VCC (power), 21 DAP

## ATtiny4313-PU
designator U?
8-bit AVR Microcontroller, 1.8-5.5V, 20MHz, 4KB Flash, 256 Bytes EEPROM, 256 Bytes SRAM, 20-pin PDIP, Industrial Grade (-40°C to 85°C), Pb-Free; DatasheetVersion: revB, Oct-2011; PackageVersion: revD, Oct-2010; PackageReference: 20P3; PackageDescription: 20-lead (0.300"/7.62mm Wide) Plastic Dual Inline Package (PDIP); Code_JEDEC: MS-001-AD; ComponentLink1Description: Manufacturer URL; ComponentLink1URL: http://www.atmel.com/; ComponentLink2Description: ATtiny2313A/4313 Datasheet; ComponentLink2URL: http://www.atmel.com/dyn/resources/prod_documents/doc8246.pdf; ComponentLink3Description: ATtiny2313A/4313 Summary; ComponentLink3URL: http://www.atmel.com/dyn/resources/prod_documents/8246S.pdf
footprint 20P3 (DIP, 20-Leads, Row Spacing 7.62mm, Pitch 2.54mm, Body 25.9x6.61mm)
pins: 1 PA2 (PCINT10/~{RESET}/dW) (io), 2 PD0 (PCINT11/RXD) (io), 3 PD1 (PCINT12/TXD) (io), 4 PA1 (PCINT9/XTAL2) (io), 5 PA0 (PCINT8/CLKI/XTAL1) (io), 6 PD2 (PCINT13/CKOUT/XCK/INT0) (io), 7 PD3 (PCINT14/INT1) (io), 8 PD4 (PCINT15/T0) (io), 9 PD5 (PCINT16/OC0B/T1) (io), 10 GND (power), 11 PD6 (ICPI/PCINT17) (io), 12 PB0 (AIN0/PCINT0) (io), 13 PB1 (AIN1/PCINT1) (io), 14 PB2 (OC0A/PCINT2) (io), 15 PB3 (OC1A/PCINT3) (io), 16 PB4 (OC1B/PCINT4) (io), 17 PB5 (MOSI/DI/SDA/PCINT5) (io), 18 PB6 (MISO/DO/PCINT6) (io), 19 PB7 (USCK/SCL/SCK/PCINT7) (io), 20 VCC (power)

## ATtiny4313-SU
designator U?
8-bit AVR Microcontroller, 1.8-5.5V, 20MHz, 4KB Flash, 256 Bytes EEPROM, 256 Bytes SRAM, 20-pin SOIC, Industrial Grade (-40°C to 85°C), Pb-Free; DatasheetVersion: revB, Oct-2011; PackageVersion: revB, Nov-2006; PackageReference: 20S; PackageDescription: 20-lead, 0.300" Wide Body, Plastic Gull Wing Small Outline Package (SOIC); Code_JEDEC: MS-013-AC; Code_IPC: SOIC127P1030-20; ComponentLink1Description: Manufacturer URL; ComponentLink1URL: http://www.atmel.com/; ComponentLink2Description: ATtiny2313A/4313 Datasheet; ComponentLink2URL: http://www.atmel.com/dyn/resources/prod_documents/doc8246.pdf; ComponentLink3Description: ATtiny2313A/4313 Summary; ComponentLink3URL: http://www.atmel.com/dyn/resources/prod_documents/8246S.pdf
footprint 20S_N (SOIC, 20-Leads, Body 12.8x7.5mm, Pitch 1.27mm, IPC Medium Density)
footprint 20S_L (SOIC, 20-Leads, Body 12.8x7.5mm, Pitch 1.27mm, IPC High Density)
footprint 20S_M (SOIC, 20-Leads, Body 12.8x7.5mm, Pitch 1.27mm, IPC Low Density)
pins: 1 PA2 (PCINT10/~{RESET}/dW) (io), 2 PD0 (PCINT11/RXD) (io), 3 PD1 (PCINT12/TXD) (io), 4 PA1 (PCINT9/XTAL2) (io), 5 PA0 (PCINT8/CLKI/XTAL1) (io), 6 PD2 (PCINT13/CKOUT/XCK/INT0) (io), 7 PD3 (PCINT14/INT1) (io), 8 PD4 (PCINT15/T0) (io), 9 PD5 (PCINT16/OC0B/T1) (io), 10 GND (power), 11 PD6 (ICPI/PCINT17) (io), 12 PB0 (AIN0/PCINT0) (io), 13 PB1 (AIN1/PCINT1) (io), 14 PB2 (OC0A/PCINT2) (io), 15 PB3 (OC1A/PCINT3) (io), 16 PB4 (OC1B/PCINT4) (io), 17 PB5 (MOSI/DI/SDA/PCINT5) (io), 18 PB6 (MISO/DO/PCINT6) (io), 19 PB7 (USCK/SCL/SCK/PCINT7) (io), 20 VCC (power)

## ATtiny4313-SUR
designator U?
8-bit AVR Microcontroller, 1.8-5.5V, 20MHz, 4KB Flash, 256 Bytes EEPROM, 256 Bytes SRAM, 20-pin SOIC, Industrial Grade (-40°C to 85°C), Pb-Free, Reel; DatasheetVersion: revB, Oct-2011; PackageVersion: revB, Nov-2006; PackageReference: 20S; PackageDescription: 20-lead, 0.300" Wide Body, Plastic Gull Wing Small Outline Package (SOIC); Code_JEDEC: MS-013-AC; Code_IPC: SOIC127P1030-20; ComponentLink1Description: Manufacturer URL; ComponentLink1URL: http://www.atmel.com/; ComponentLink2Description: ATtiny2313A/4313 Datasheet; ComponentLink2URL: http://www.atmel.com/dyn/resources/prod_documents/doc8246.pdf; ComponentLink3Description: ATtiny2313A/4313 Summary; ComponentLink3URL: http://www.atmel.com/dyn/resources/prod_documents/8246S.pdf
footprint 20S_N (SOIC, 20-Leads, Body 12.8x7.5mm, Pitch 1.27mm, IPC Medium Density)
footprint 20S_L (SOIC, 20-Leads, Body 12.8x7.5mm, Pitch 1.27mm, IPC High Density)
footprint 20S_M (SOIC, 20-Leads, Body 12.8x7.5mm, Pitch 1.27mm, IPC Low Density)
pins: 1 PA2 (PCINT10/~{RESET}/dW) (io), 2 PD0 (PCINT11/RXD) (io), 3 PD1 (PCINT12/TXD) (io), 4 PA1 (PCINT9/XTAL2) (io), 5 PA0 (PCINT8/CLKI/XTAL1) (io), 6 PD2 (PCINT13/CKOUT/XCK/INT0) (io), 7 PD3 (PCINT14/INT1) (io), 8 PD4 (PCINT15/T0) (io), 9 PD5 (PCINT16/OC0B/T1) (io), 10 GND (power), 11 PD6 (ICPI/PCINT17) (io), 12 PB0 (AIN0/PCINT0) (io), 13 PB1 (AIN1/PCINT1) (io), 14 PB2 (OC0A/PCINT2) (io), 15 PB3 (OC1A/PCINT3) (io), 16 PB4 (OC1B/PCINT4) (io), 17 PB5 (MOSI/DI/SDA/PCINT5) (io), 18 PB6 (MISO/DO/PCINT6) (io), 19 PB7 (USCK/SCL/SCK/PCINT7) (io), 20 VCC (power)